# EAGLE library part AXE534124 (library con_AXE534124)
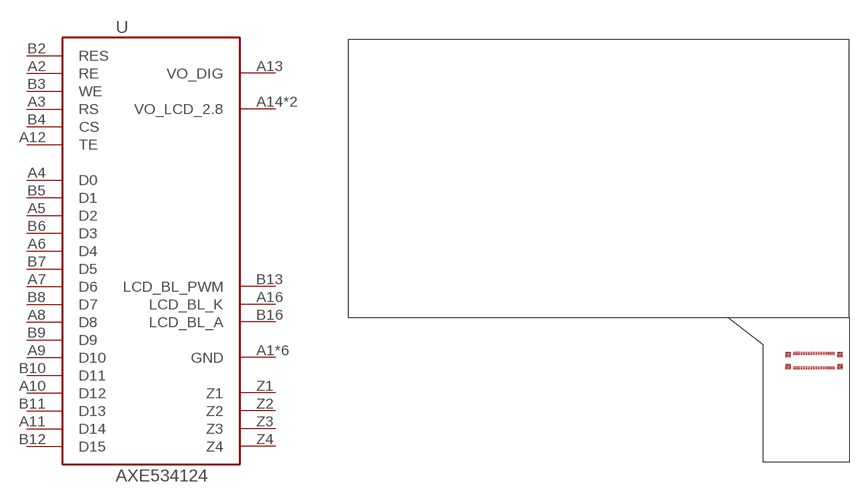
[diagram p0: symbol with the pads of SOCKET; footprint SOCKET]

Designator prefix -

## AXE534124  [SOCKET]
A1  GND
A2  RE
A3  RS
A4  D0
A5  D2
A6  D4
A7  D6
A8  D8
A9  D10
A10  D12
A11  D14
A12  TE  out
A13  VO_DIG
A14  VO_LCD_2.8
A15  GND
A16  LCD_BL_K
A17  GND
B1  GND
B2  RES
B3  WE
B4  CS
B5  D1
B6  D3
B7  D5
B8  D7
B9  D9
B10  D11
B11  D13
B12  D15
B13  LCD_BL_PWM  out
B14  VO_LCD_2.8
B15  GND
B16  LCD_BL_A
B17  GND
Z1  Z1
Z2  Z2
Z3  Z3
Z4  Z4

## Footprint SOCKET (pad centres in mm)
smd 0.26 x 0.5: A1 3.2,1.2; A2 2.8,1.2; A3 2.4,1.2; A4 2,1.2; A5 1.6,1.2; A6 1.2,1.2; A7 0.8,1.2; A8 0.4,1.2; A9 0,1.2; A10 -0.4,1.2; A11 -0.8,1.2; A12 -1.2,1.2; A13 -1.6,1.2; A14 -2,1.2; A15 -2.4,1.2; A16 -2.8,1.2; A17 -3.2,1.2; B1 3.2,-1.2; B2 2.8,-1.2; B3 2.4,-1.2; B4 2,-1.2; B5 1.6,-1.2; B6 1.2,-1.2; B7 0.8,-1.2; B8 0.4,-1.2; B9 0,-1.2; B10 -0.4,-1.2; B11 -0.8,-1.2; B12 -1.2,-1.2; B13 -1.6,-1.2; B14 -2,-1.2; B15 -2.4,-1.2; B16 -2.8,-1.2; B17 -3.2,-1.2
smd 0.9 x 0.9: Z1 4.2,1; Z2 -4.2,1; Z3 -4.2,-1; Z4 4.2,-1